# EAGLE library part REVERSER (library dcc)
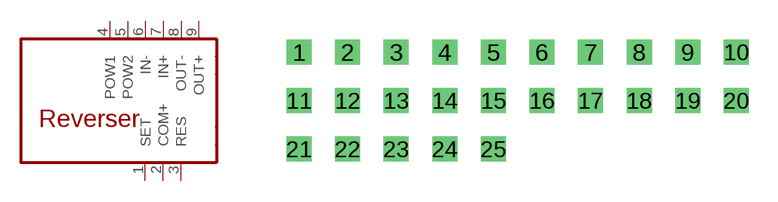
[diagram p5: symbol with the pads of DUMMY25; footprint DUMMY25]

Designator prefix -

## REVERSER  [DUMMY25]
1  SET
2  COM+
3  RES
4  POW1
5  POW2
6  IN-
7  IN+
8  OUT-
9  OUT+

## Footprint DUMMY25 (pad centres in mm)
drill 0.8 square: 1 -11.43,0; 2 -8.89,0; 3 -6.35,0; 4 -3.81,0; 5 -1.27,0; 6 1.27,0; 7 3.81,0; 8 6.35,0; 9 8.89,0; 10 11.43,0; 11 -11.43,-2.54; 12 -8.89,-2.54; 13 -6.35,-2.54; 14 -3.81,-2.54; 15 -1.27,-2.54; 16 1.27,-2.54; 17 3.81,-2.54; 18 6.35,-2.54; 19 8.89,-2.54; 20 11.43,-2.54; 21 -11.43,-5.08; 22 -8.89,-5.08; 23 -6.35,-5.08; 24 -3.81,-5.08; 25 -1.27,-5.08